# Altium integrated library ABM8-30.000MHZ-10-1-U-T.IntLib: 1 symbol
Pins are listed as number, name and electrical type; pins without a type are passive.

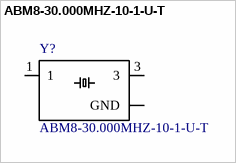
[diagram p0: symbol ABM8-30.000MHZ-10-1-U-T]

## ABM8-30.000MHZ-10-1-U-T
designator Y?
Ultra Miniature Crystal, SMD Ceramic, 30.000MHZ, 10pF, 10ppm@25C, 10ppm -10+60C,; MF: Abracon; SnapEDA_Link: https://www.snapeda.com/parts/ABM8-30.000MHZ-10-1-U-T/Abracon%20LLC/view-part/?ref=snap; MP: ABM8-30.000MHZ-10-1-U-T; Availability: Unavailable; Price: None; Package: SMD-4 Abracon; Value: *
footprint *OSCSC320X250X100N
pins: 1, 2 GND (power), 3, 4 GND (power)